# EAGLE library part PPPN101BFCN-RC (library machine_science)
This is a 10 pin 2mm header manufactured by Sullins Connector Solutions The Manufacturer part number is PPN101BFCN-RC. The Digikey part number is S5751-10-ND. The initial application for this device is board headers for mounting the Xbee.
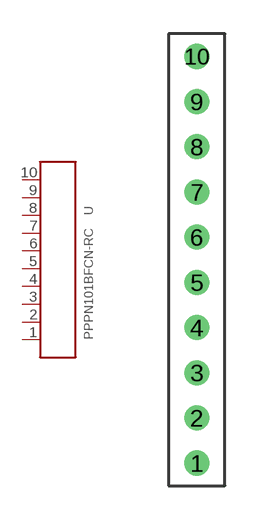
[diagram p18: symbol with the pads of JUMPER-2MM-10PIN; footprint JUMPER-2MM-10PIN]

Designator prefix -

## PPPN101BFCN-RC  [JUMPER-2MM-10PIN]
1  1
2  2
3  3
4  4
5  5
6  6
7  7
8  8
9  9
10  10

## Footprint JUMPER-2MM-10PIN (pad centres in mm)
drill 0.6 round: 1 0,-9; 2 0,-7; 3 0,-5; 4 0,-3; 5 0,-1; 6 0,1; 7 0,3; 8 0,5; 9 0,7; 10 0,9